# EAGLE library part VFD-IV-11 (library VFD-Clock)
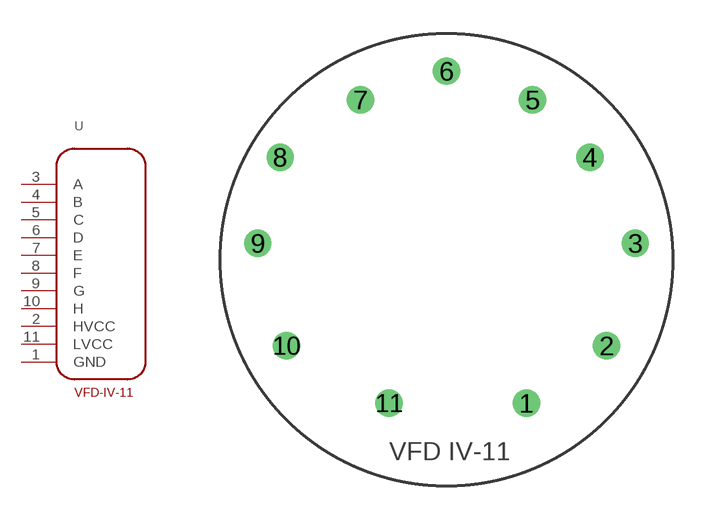
[diagram p0: symbol with the pads of VFD-IV11; footprint VFD-IV11]

Designator prefix -

## VFD-IV-11  [VFD-IV11]
1  GND
2  HVCC
3  A
4  B
5  C
6  D
7  E
8  F
9  G
10  H
11  LVCC

## Footprint VFD-IV11 (pad centres in mm)
drill 0.7: 1 3.54,-6.35; 2 7.08,-3.81; 3 8.35,0.73; 4 6.35,4.54; 5 3.81,7.08; 6 0,8.35; 7 -3.81,7.08; 8 -7.35,4.54; 9 -8.35,0.73; 10 -7.08,-3.81; 11 -2.54,-6.35